# Altium integrated library RF Micro Microwave Amplifier.IntLib: 3 symbols
Pins are listed as number, name and electrical type; pins without a type are passive.

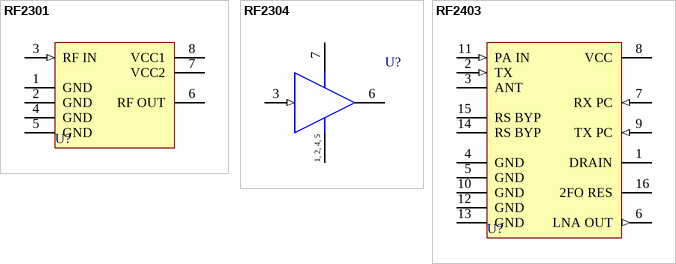
[diagram p0: symbols RF2301 to RF2403]

## RF2301
designator U?
High Isolation Buffer Amplifier; Published: 8-Jun-2000; LatestRevisionDate: 13-Apr-2006; LatestRevisionNote: IPC-7351 Footprint Added.; DatasheetVersion: Apr-1997; PackageVersion: 1997; PackageReference: SOP-8; Publisher: Altium Limited; PackageDescription: 8-Pin Small Outline Integrated Circuit 1.27 mm Pitch; ComponentLink1Description: Manufacturer Link; ComponentLink1URL: http://www.rfmd.com/
footprint SOP-8_N (SOIC, 8-Leads, Body 4.9x3.9mm, Pitch 1.27mm, IPC Medium Density)
footprint SOP-8_L (SOIC, 8-Leads, Body 4.9x3.9mm, Pitch 1.27mm, IPC High Density)
footprint SOP-8_M (SOIC, 8-Leads, Body 4.9x3.9mm, Pitch 1.27mm, IPC Low Density)
pins: 1 GND (power), 2 GND (power), 3 RF IN (in), 4 GND (power), 5 GND (power), 6 RF OUT (oc), 7 VCC2 (power), 8 VCC1 (power)

## RF2304
designator U?
General Purpose Low-Noise Amplifier; Note: Pin(s) 8 "No Connection" and not drawn.; Published: 8-Jun-2000; LatestRevisionDate: 13-Apr-2006; LatestRevisionNote: IPC-7351 Footprint Added.; DatasheetVersion: Apr-1997; PackageVersion: 1997; PackageReference: SOP-8; Publisher: Altium Limited; PackageDescription: 8-Pin Small Outline Integrated Circuit 1.27 mm Pitch; ComponentLink1Description: Manufacturer Link; ComponentLink1URL: http://www.rfmd.com/; ComponentLink2Description: Datasheet; ComponentLink2URL: http://www.rfmd.com/DataBooks/db97/2304.pdf
footprint SOP-8_N (SOIC, 8-Leads, Body 4.9x3.9mm, Pitch 1.27mm, IPC Medium Density)
footprint SOP-8_L (SOIC, 8-Leads, Body 4.9x3.9mm, Pitch 1.27mm, IPC High Density)
footprint SOP-8_M (SOIC, 8-Leads, Body 4.9x3.9mm, Pitch 1.27mm, IPC Low Density)
pins: 1 GND (power), 2 GND (power), 3 RF IN (in), 4 GND (power), 5 GND (power), 6 RF OUT (oc), 7 VCC (power)
text: 1, 2, 4, 5

## RF2403
designator U?
Transceiver Front-End; Published: 8-Jun-2000; LatestRevisionDate: 13-Apr-2006; LatestRevisionNote: IPC-7351 Footprint Added.; DatasheetVersion: Apr-1997; PackageVersion: 1997; PackageReference: SOP-16; Publisher: Altium Limited; PackageDescription: 16-Pin Small Outline Integrated Circuit 1.27 mm Pitch; Code_IPC: SOIC127P600-16; ComponentLink1Description: Manufacturer Link; ComponentLink1URL: http://www.rfmd.com/
footprint SOP-16_N (SOIC, 16-Leads, Body 9.9x3.9mm, Pitch 1.27mm, IPC Medium Density)
footprint SOP-16_L (SOIC, 16-Leads, Body 9.9x3.9mm, Pitch 1.27mm, IPC High Density)
footprint SOP-16_M (SOIC, 16-Leads, Body 9.9x3.9mm, Pitch 1.27mm, IPC Low Density)
pins: 1 DRAIN, 2 TX (in), 3 ANT, 4 GND (power), 5 GND (power), 6 LNA OUT (out), 7 RX PC (in), 8 VCC (power), 9 TX PC (in), 10 GND (power), 11 PA IN (in), 12 GND (power), 13 GND (power), 14 RS BYP, 15 RS BYP, 16 2FO RES